# Altium schematic symbol library parts.SCHLIB: 20 symbols
Pins are listed as number, name and electrical type; pins without a type are passive.

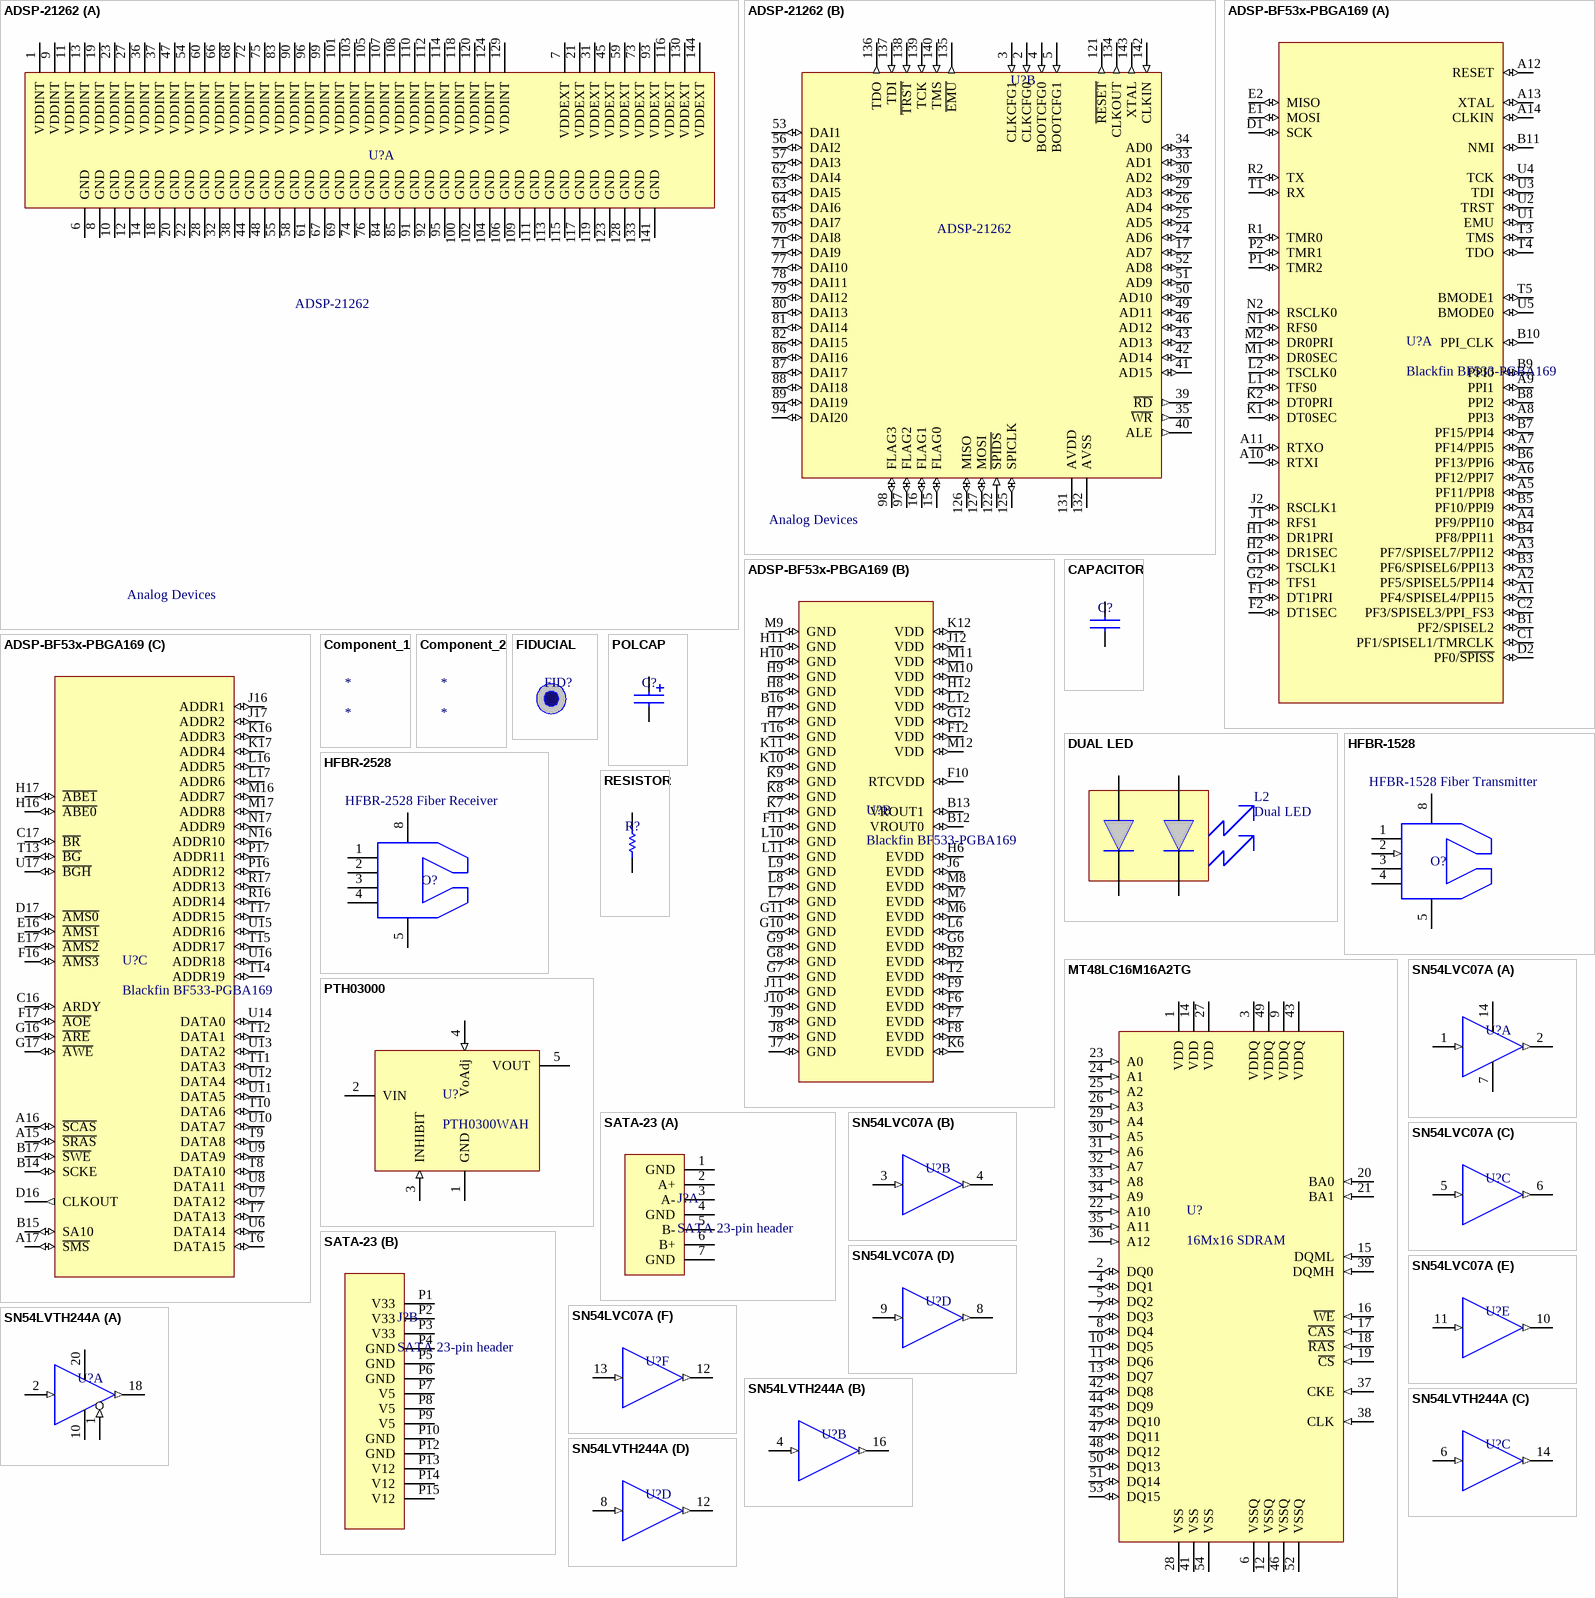
[diagram p0: symbols ADSP-21262 to SN54LVTH244A]

## ADSP-21262
designator U?  Vendor: Analog Devices
SHARC 200 MHz 32-bit floating-point SIMD DSP
footprint F-QFP20X20-G144/N
part A pins: 1 VDDINT (power), 6 GND (power), 7 VDDEXT (power), 8 GND (power), 9 VDDINT (power), 10 GND (power), 11 VDDINT (power), 12 GND (power), 13 VDDINT (power), 14 GND (power), 18 GND (power), 19 VDDINT (power), 20 GND (power), 21 VDDEXT (power), 22 GND (power), 23 VDDINT (power), 27 VDDINT (power), 28 GND (power), 31 VDDEXT (power), 32 GND (power), 36 VDDINT (power), 37 VDDINT (power), 38 GND (power), 44 GND (power), 45 VDDEXT (power), 47 VDDINT (power), 48 GND (power), 54 VDDINT (power), 55 GND (power), 58 GND (power), 59 VDDEXT (power), 60 VDDINT (power), 61 GND (power), 66 VDDINT (power), 67 GND (power), 68 VDDINT (power), 69 GND (power), 72 VDDINT (power), 73 VDDEXT (power), 74 GND (power), 75 VDDINT (power), 76 GND (power), 83 VDDINT (power), 84 GND (power), 85 GND (power), 90 VDDINT (power), 91 GND (power), 92 GND (power), 93 VDDEXT (power), 95 GND (power), 96 VDDINT (power), 99 VDDINT (power), 100 GND (power), 101 VDDINT (power), 102 GND (power), 103 VDDINT (power), 104 GND (power), 105 VDDINT (power), 106 GND (power), 107 VDDINT (power), 108 VDDINT (power), 109 GND (power), 110 VDDINT (power), 111 GND (power), 112 VDDINT (power), 113 GND (power), 114 VDDINT (power), 115 GND (power), 116 VDDEXT (power), 117 GND (power), 118 VDDINT (power), 119 GND (power), 120 VDDINT (power), 123 GND (power), 124 VDDINT (power), 128 GND (power), 129 VDDINT (power), 130 VDDEXT (power), 133 GND (power), 141 GND (power), 144 VDDEXT (power)
part B pins: 2 CLKCFG0 (in), 3 CLKCFG1 (in), 4 BOOTCFG0 (in), 5 BOOTCFG1 (in), 15 FLAG0 (io), 16 FLAG1 (io), 17 AD7 (io), 24 AD6 (io), 25 AD5 (io), 26 AD4 (io), 29 AD3 (io), 30 AD2 (io), 33 AD1 (io), 34 AD0 (io), 35 ~{WR} (out), 39 ~{RD} (out), 40 ALE (out), 41 AD15 (io), 42 AD14 (io), 43 AD13 (io), 46 AD12 (io), 49 AD11 (io), 50 AD10 (io), 51 AD9 (io), 52 AD8 (io), 53 DAI1 (io), 56 DAI2 (io), 57 DAI3 (io), 62 DAI4 (io), 63 DAI5 (io), 64 DAI6 (io), 65 DAI7 (io), 70 DAI8 (io), 71 DAI9 (io), 77 DAI10 (io), 78 DAI11 (io), 79 DAI12 (io), 80 DAI13 (io), 81 DAI14 (io), 82 DAI15 (io), 86 DAI16 (io), 87 DAI17 (io), 88 DAI18 (io), 89 DAI19 (io), 94 DAI20 (io), 97 FLAG2 (io), 98 FLAG3 (io), 121 ~{RESET} (out), 122 ~{SPIDS} (in), 125 SPICLK (io), 126 MISO (io), 127 MOSI (io), 131 AVDD (power), 132 AVSS (power), 134 CLKOUT (out), 135 ~{EMU} (out), 136 TDO (out), 137 TDI (in), 138 ~{TRST} (in), 139 TCK (in), 140 TMS (in), 142 CLKIN (in), 143 XTAL (out)

## ADSP-BF53x-PBGA169
designator U?, comment Blackfin BF533-PGBA169
Analog Devices Blackfin
footprint AD PBGA-169 (Footprint not found)
part A pins: A1 PF4/SPISEL4/PPI15 (io), A2 PF5/SPISEL5/PPI14 (io), A3 PF7/SPISEL7/PPI12 (io), A4 PF9/PPI10 (io), A5 PF11/PPI8 (io), A6 PF12/PPI7 (io), A7 PF14/PPI5 (io), A8 PPI3 (io), A9 PPI1 (io), A10 RTXI (io), A11 RTXO (io), A12 RESET (io), A13 XTAL (io), A14 CLKIN (io), B1 PF2/SPISEL2 (io), B3 PF6/SPISEL6/PPI13 (io), B4 PF8/PPI11 (io), B5 PF10/PPI9 (io), B6 PF13/PPI6 (io), B7 PF15/PPI4 (io), B8 PPI2 (io), B9 PPI0 (io), B10 PPI_CLK (io), B11 NMI (io), C1 PF1/SPISEL1/TMRCLK (io), C2 PF3/SPISEL3/PPI_FS3 (io), D1 SCK (io), D2 PF0/~{SPISS} (io), E1 MOSI (io), E2 MISO (io), F1 DT1PRI (io), F2 DT1SEC (io), G1 TSCLK1 (io), G2 TFS1 (io), H1 DR1PRI (io), H2 DR1SEC (io), J1 RFS1 (io), J2 RSCLK1 (io), K1 DT0SEC (io), K2 DT0PRI (io), L1 TFS0 (io), L2 TSCLK0 (io), M1 DR0SEC (io), M2 DR0PRI (io), N1 RFS0 (io), N2 RSCLK0 (io), P1 TMR2 (io), P2 TMR1 (io), R1 TMR0 (io), R2 TX (io), T1 RX (io), T3 TMS (io), T4 TDO (io), T5 BMODE1 (io), U1 EMU (io), U2 TRST (io), U3 TDI (io), U4 TCK (io), U5 BMODE0 (io)
part B pins: B2 EVDD (io), B12 VROUT0 (io), B13 VROUT1 (io), B16 GND (io), F6 EVDD (io), F7 EVDD (io), F8 EVDD (io), F9 EVDD (io), F10 RTCVDD (io), F11 GND (io), F12 VDD (io), G6 EVDD (io), G7 GND (io), G8 GND (io), G9 GND (io), G10 GND (io), G11 GND (io), G12 VDD (io), H6 EVDD (io), H7 GND (io), H8 GND (io), H9 GND (io), H10 GND (io), H11 GND (io), H12 VDD (io), J6 EVDD (io), J7 GND (io), J8 GND (io), J9 GND (io), J10 GND (io), J11 GND (io), J12 VDD (io), K6 EVDD (io), K7 GND (io), K8 GND (io), K9 GND (io), K10 GND (io), K11 GND (io), K12 VDD (io), L6 EVDD (io), L7 GND (io), L8 GND (io), L9 GND (io), L10 GND (io), L11 GND (io), L12 VDD (io), M6 EVDD (io), M7 EVDD (io), M8 EVDD (io), M9 GND (io), M10 VDD (io), M11 VDD (io), M12 VDD (io), T2 EVDD (io), T16 GND (io)
part C pins: A15 ~{SRAS} (io), A16 ~{SCAS} (io), A17 ~{SMS} (io), B14 SCKE (io), B15 SA10 (io), B17 ~{SWE} (io), C16 ARDY (io), C17 ~{BR} (io), D16 CLKOUT (out), D17 ~{AMS0} (io), E16 ~{AMS1} (io), E17 ~{AMS2} (io), F16 ~{AMS3} (io), F17 ~{AOE} (io), G16 ~{ARE} (io), G17 ~{AWE} (io), H16 ~{ABE0} (io), H17 ~{ABE1} (io), J16 ADDR1 (io), J17 ADDR2 (io), K16 ADDR3 (io), K17 ADDR4 (io), L16 ADDR5 (io), L17 ADDR6 (io), M16 ADDR7 (io), M17 ADDR8 (io), N16 ADDR10 (io), N17 ADDR9 (io), P16 ADDR12 (io), P17 ADDR11 (io), R16 ADDR14 (io), R17 ADDR13 (io), T6 DATA15 (io), T7 DATA13 (io), T8 DATA10 (io), T9 DATA8 (io), T10 DATA6 (io), T11 DATA3 (io), T12 DATA1 (io), T13 ~{BG} (io), T14 ADDR19 (io), T15 ADDR17 (io), T17 ADDR15 (io), U6 DATA14 (io), U7 DATA12 (io), U8 DATA11 (io), U9 DATA9 (io), U10 DATA7 (io), U11 DATA5 (io), U12 DATA4 (io), U13 DATA2 (io), U14 DATA0 (io), U15 ADDR16 (io), U16 ADDR18 (io), U17 ~{BGH} (io)

## CAPACITOR
designator C?
Standard Capacitor; Type: X7R
footprint 0603 (Standard-sized 0603 Passive)
pins: 1, 2

## Component_1
designator *

## Component_2
designator *

## DUAL LED
designator L2, comment Dual LED
footprint LUMEX DUAL RT-ANG LED (Lumex Dual Right-angle LED holder for part SSF-LXH2100XX)
pins: 1 A1, 2, 3 A2, 4 C2

## FIDUCIAL
designator FID?  (value not drawn)
Fiducial
footprint FIDUCIAL (Fiducial footprint as recommended by PCBpro)

## HFBR-1528
designator O?, comment HFBR-1528 Fiber Transmitter
Low-cost fiber transmitter; Vendor: Agilent
footprint HPVL
pins: 1 (power), 2 (in), 3 (power), 4 (power), 5 (power), 8 (power)

## HFBR-2528
designator O?, comment HFBR-2528 Fiber Receiver
Low-cost fiber receiver; Vendor: Agilent
footprint HPVL
pins: 1 (power), 2 (power), 3 (power), 4 (power), 5 (power), 8 (power)

## MT48LC16M16A2TG
designator U?, comment 16Mx16 SDRAM
Micron 16Mbitx16 SDRAM
footprint SO-G54/X.5 (Small Outline, Plastic; 54 Leads; Body Width 10.16 mm)
pins: 1 VDD (power), 2 DQ0 (io), 3 VDDQ (power), 4 DQ1 (io), 5 DQ2 (io), 6 VSSQ (power), 7 DQ3 (io), 8 DQ4 (io), 9 VDDQ (power), 10 DQ5 (io), 11 DQ6 (io), 12 VSSQ (power), 13 DQ7 (io), 14 VDD (power), 15 DQML (in), 16 ~{WE} (in), 17 ~{CAS} (in), 18 ~{RAS} (in), 19 ~{CS} (in), 20 BA0 (in), 21 BA1 (in), 22 A10 (in), 23 A0 (in), 24 A1 (in), 25 A2 (in), 26 A3 (in), 27 VDD (power), 28 VSS (power), 29 A4 (in), 30 A5 (in), 31 A6 (in), 32 A7 (in), 33 A8 (in), 34 A9 (in), 35 A11 (in), 36 A12 (in), 37 CKE (in), 38 CLK (in), 39 DQMH (in), 41 VSS (power), 42 DQ8 (io), 43 VDDQ (power), 44 DQ9 (io), 45 DQ10 (io), 46 VSSQ (power), 47 DQ11 (io), 48 DQ12 (io), 49 VDDQ (power), 50 DQ13 (io), 51 DQ14 (io), 52 VSSQ (power), 53 DQ15 (io), 54 VSS (power)

## POLCAP
designator C?
Standard Capacitor; Type: X7R
footprint 3216 (Standard-Sized 3216 Polarized Leadless Cap)
pins: 1, 2

## PTH03000
designator U?, comment PTH0300WAH
TI 6A 3.3V Input Power Modle
footprint TI EUS (Package for TI PTH03000W)
pins: 1 GND (power), 2 VIN (power), 3 INHIBIT (in), 4 VoAdj (in), 5 VOUT (power)

## RESISTOR
designator R?
Standard Passive Resistor
footprint 0603 (Standard-sized 0603 Passive)
pins: 1, 2

## SATA-23
designator J?, comment SATA 23-pin header
footprint MOLEX 87713-1001 (Molex Serial ATA Backplane Std. Height)
part A pins: 1 GND, 2 A+, 3 A-, 4 GND, 5 B-, 6 B+, 7 GND
part B pins: P1 V33, P2 V33, P3 V33, P4 GND, P5 GND, P6 GND, P7 V5, P8 V5, P9 V5, P10 GND, P12 GND, P13 V12, P14 V12, P15 V12

## SN54LVC07A
designator U?, comment SN74LVC07A  (value not drawn)
footprint SSO-G14/X.4 (SSOP; 14 Leads; Body Width 5.3 mm; Pitch 0.65 mm)
part A pins: 1 IN (in), 2 OUT (out), 7 GND (power), 14 VCC (power)
part B pins: 3 IN (in), 4 OUT (out)
part C pins: 5 IN (in), 6 OUT (out)
part D pins: 8 OUT (out), 9 IN (in)
part E pins: 10 OUT (out), 11 IN (in)
part F pins: 12 OUT (out), 13 IN (in)

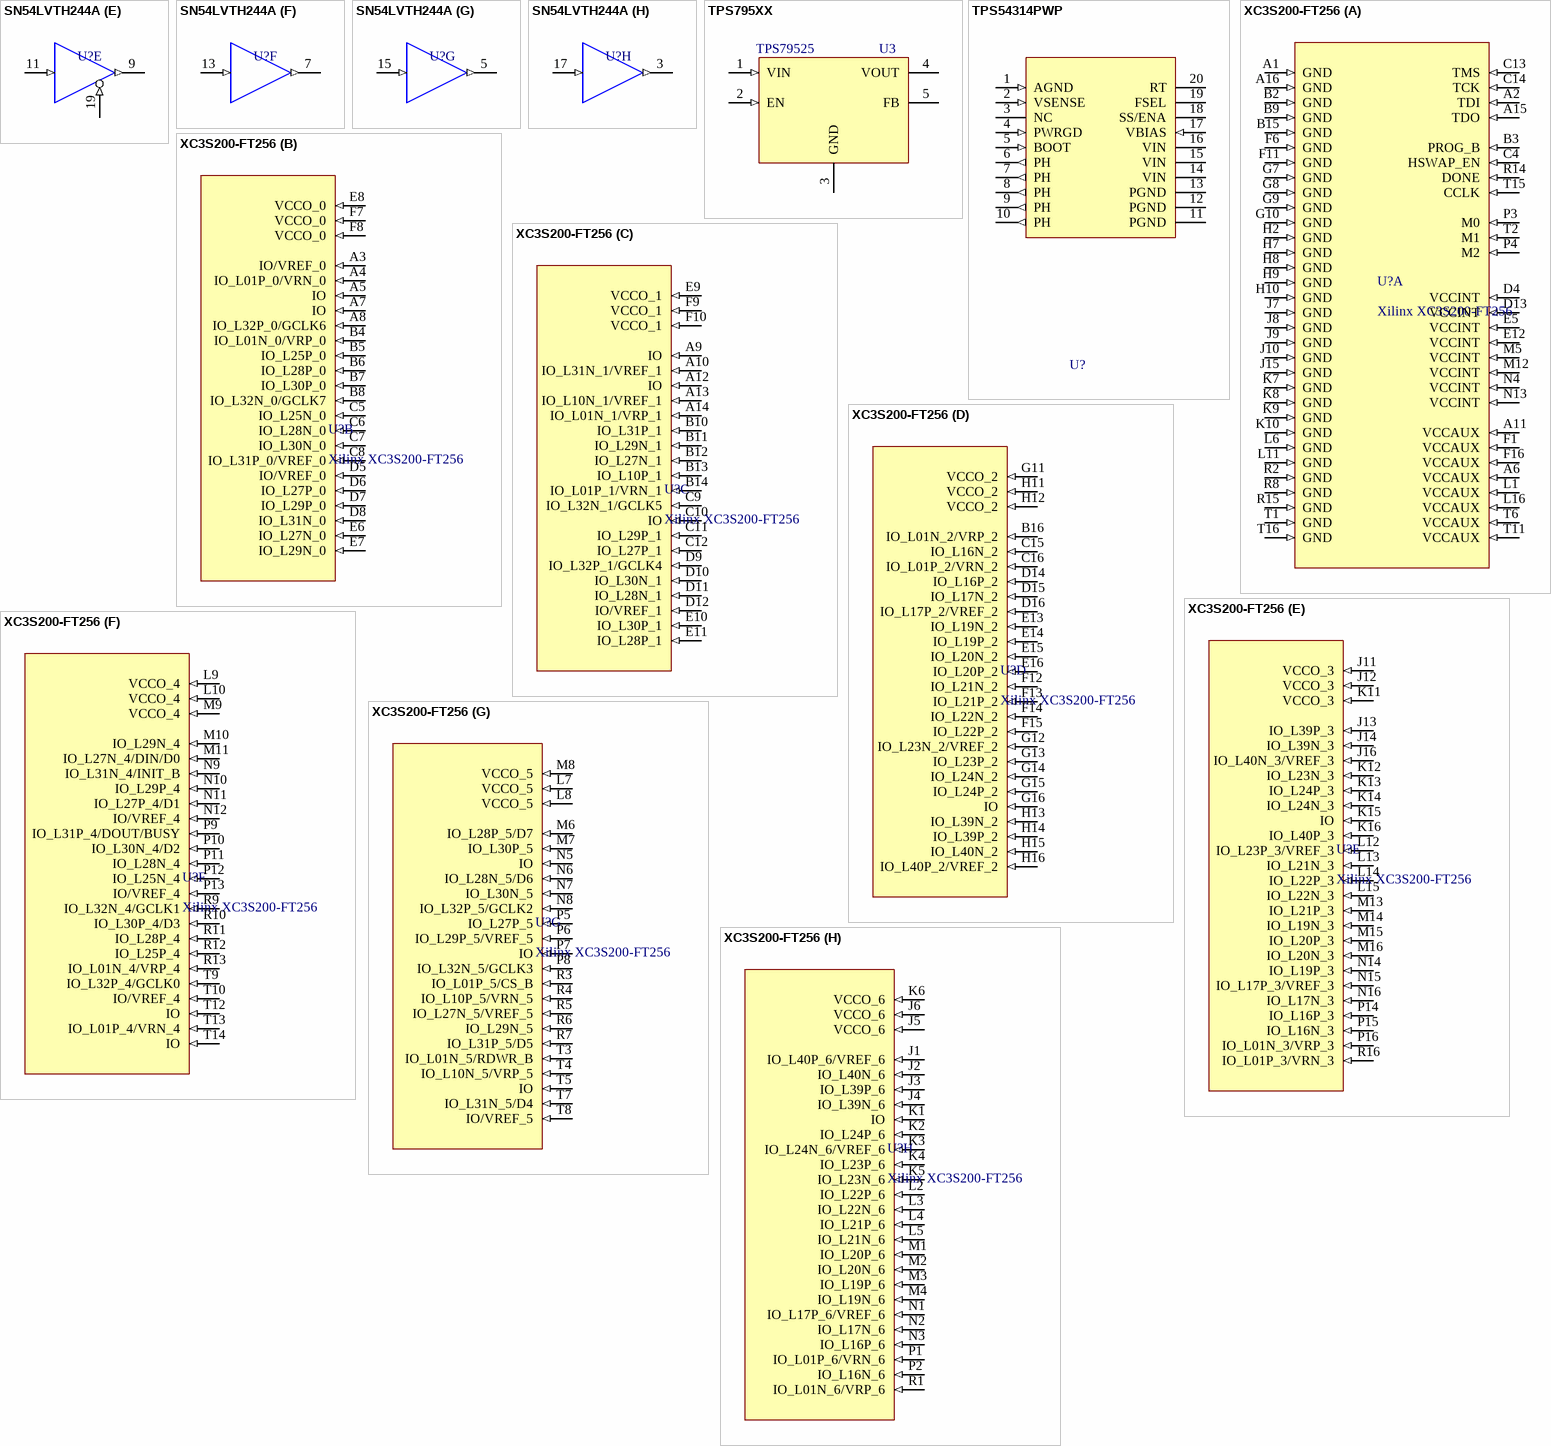
[diagram p1: symbols SN54LVTH244A to XC3S200-FT256]

## SN54LVTH244A
designator U?  (value not drawn)
footprint RGY (TI RGY SMT part)
part A pins: 1 ~{1OE} (in), 2 IN (in), 10 GND (power), 18 OUT (out), 20 VCC (power)
part B pins: 4 IN (in), 16 OUT (out)
part C pins: 6 IN (in), 14 OUT (out)
part D pins: 8 IN (in), 12 OUT (out)
part E pins: 9 OUT (out), 11 IN (in), 19 ~{2OE} (in)
part F pins: 7 OUT (out), 13 IN (in)
part G pins: 5 OUT (out), 15 IN (in)
part H pins: 3 OUT (out), 17 IN (in)

## TPS795XX
designator U3, comment TPS79525
TI Ultra-low-noise LDO
footprint SOT223-5/Simple (SOT-223 without large heatsink)
pins: 1 VIN (in), 2 EN (in), 3 GND (power), 4 VOUT (power), 5 FB

## TPS54314PWP
designator U?
3-6V input 3A out Buck converter
footprint PWP PowerPad -20
pins: 1 AGND (in), 2 VSENSE (in), 3 NC, 4 PWRGD (in), 5 BOOT (in), 6 PH (out), 7 PH (out), 8 PH (out), 9 PH (out), 10 PH (out), 11 PGND (power), 12 PGND (power), 13 PGND (power), 14 VIN (power), 15 VIN (power), 16 VIN (power), 17 VBIAS (in), 18 SS/ENA, 19 FSEL, 20 RT, P0 (power) hidden to GND, P1 (power) hidden to GND, P2 (power) hidden to GND, P3 (power) hidden to GND, P4 (power) hidden to GND, P5 (power) hidden to GND, P6 (power) hidden to GND, P7 (power) hidden to GND, P8 (power) hidden to GND, P9 (power) hidden to GND, P10 (power) hidden to GND

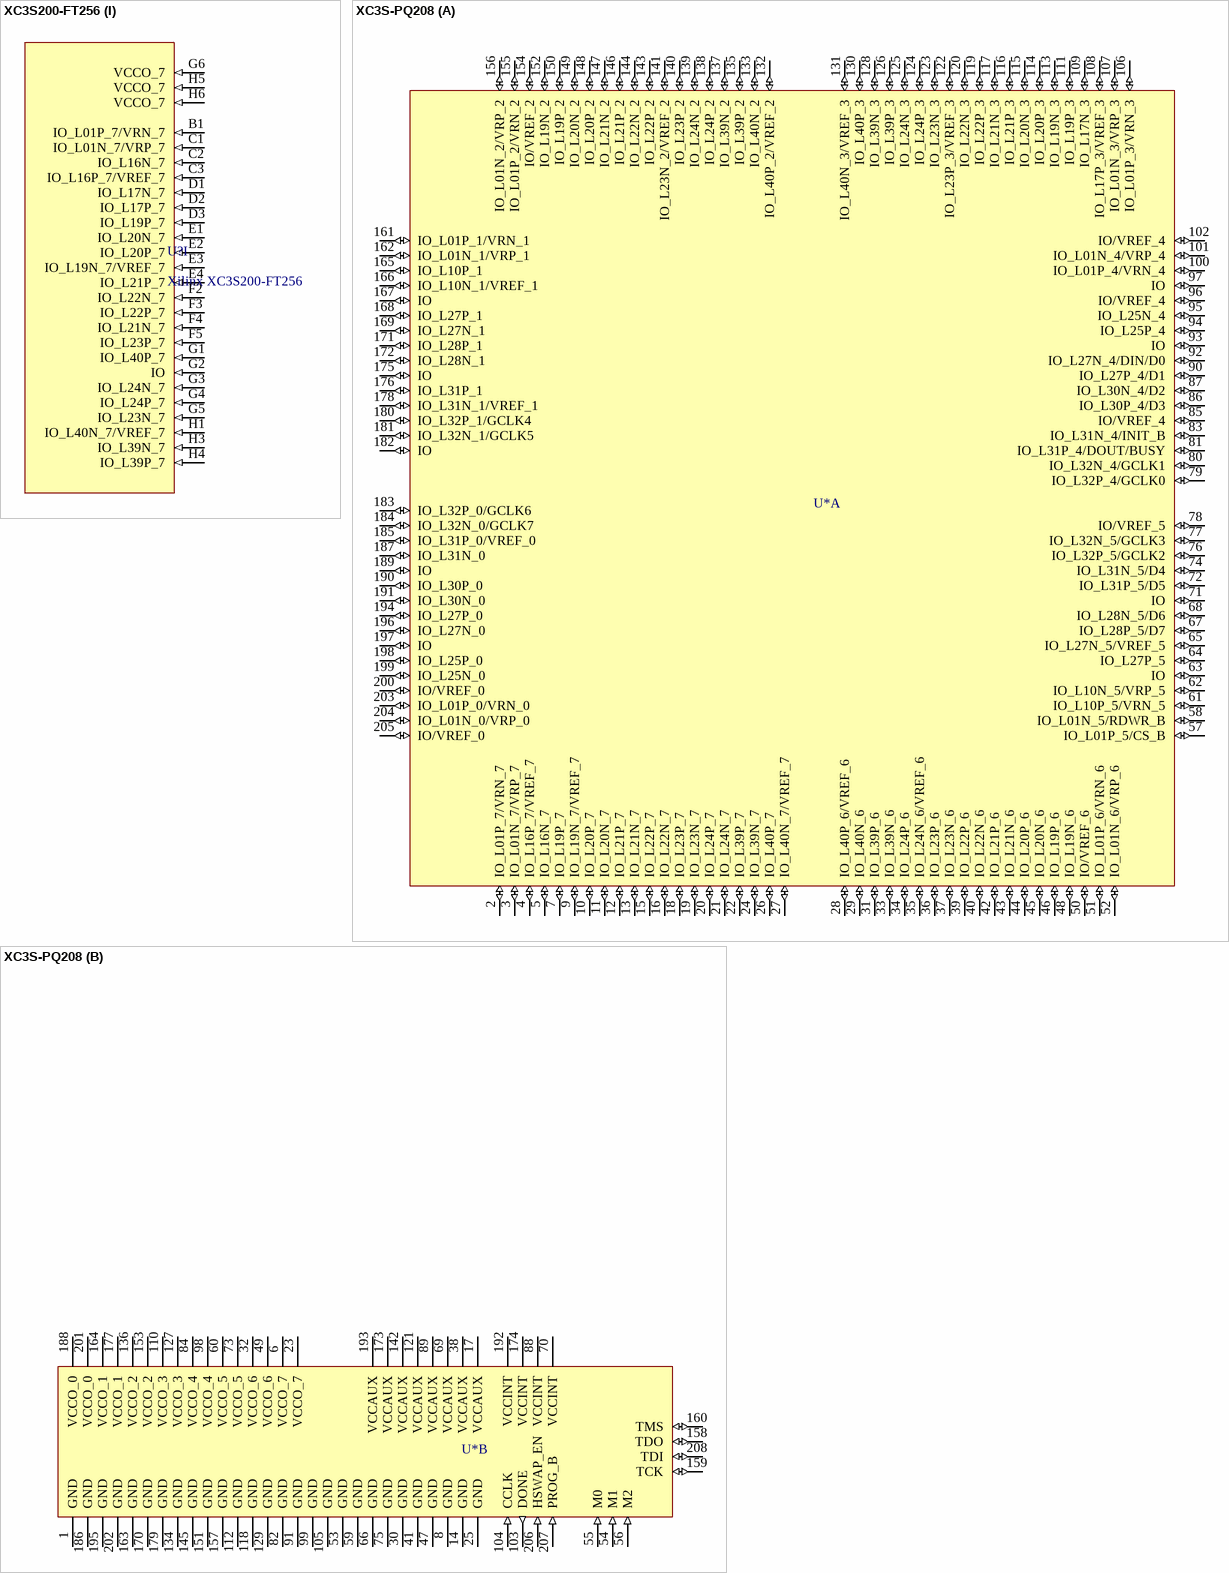
[diagram p2: symbols XC3S200-FT256 to XC3S-PQ208]

## XC3S200-FT256
designator U?, comment Xilinx XC3S200-FT256
Xilinx Spartan-3 FPGA
footprint Xilinx FT256 BGA (Xilinx BGA)
part A pins: A1 GND (in), A2 TDI (in), A6 VCCAUX (in), A11 VCCAUX (in), A15 TDO (in), A16 GND (in), B2 GND (in), B3 PROG_B (in), B9 GND (in), B15 GND (in), C4 HSWAP_EN (in), C13 TMS (in), C14 TCK (in), D4 VCCINT (in), D13 VCCINT (in), E5 VCCINT (in), E12 VCCINT (in), F1 VCCAUX (in), F6 GND (in), F11 GND (in), F16 VCCAUX (in), G7 GND (in), G8 GND (in), G9 GND (in), G10 GND (in), H2 GND (in), H7 GND (in), H8 GND (in), H9 GND (in), H10 GND (in), J7 GND (in), J8 GND (in), J9 GND (in), J10 GND (in), J15 GND (in), K7 GND (in), K8 GND (in), K9 GND (in), K10 GND (in), L1 VCCAUX (in), L6 GND (in), L11 GND (in), L16 VCCAUX (in), M5 VCCINT (in), M12 VCCINT (in), N4 VCCINT (in), N13 VCCINT (in), P3 M0 (in), P4 M2 (in), R2 GND (in), R8 GND (in), R14 DONE (in), R15 GND (in), T1 GND (in), T2 M1 (in), T6 VCCAUX (in), T11 VCCAUX (in), T15 CCLK (in), T16 GND (in)
part B pins: A3 IO/VREF_0 (in), A4 IO_L01P_0/VRN_0 (in), A5 IO (in), A7 IO (in), A8 IO_L32P_0/GCLK6 (in), B4 IO_L01N_0/VRP_0 (in), B5 IO_L25P_0 (in), B6 IO_L28P_0 (in), B7 IO_L30P_0 (in), B8 IO_L32N_0/GCLK7 (in), C5 IO_L25N_0 (in), C6 IO_L28N_0 (in), C7 IO_L30N_0 (in), C8 IO_L31P_0/VREF_0 (in), D5 IO/VREF_0 (in), D6 IO_L27P_0 (in), D7 IO_L29P_0 (in), D8 IO_L31N_0 (in), E6 IO_L27N_0 (in), E7 IO_L29N_0 (in), E8 VCCO_0 (in), F7 VCCO_0 (in), F8 VCCO_0 (in)
part C pins: A9 IO (in), A10 IO_L31N_1/VREF_1 (in), A12 IO (in), A13 IO_L10N_1/VREF_1 (in), A14 IO_L01N_1/VRP_1 (in), B10 IO_L31P_1 (in), B11 IO_L29N_1 (in), B12 IO_L27N_1 (in), B13 IO_L10P_1 (in), B14 IO_L01P_1/VRN_1 (in), C9 IO_L32N_1/GCLK5 (in), C10 IO (in), C11 IO_L29P_1 (in), C12 IO_L27P_1 (in), D9 IO_L32P_1/GCLK4 (in), D10 IO_L30N_1 (in), D11 IO_L28N_1 (in), D12 IO/VREF_1 (in), E9 VCCO_1 (in), E10 IO_L30P_1 (in), E11 IO_L28P_1 (in), F9 VCCO_1 (in), F10 VCCO_1 (in)
part D pins: B16 IO_L01N_2/VRP_2 (in), C15 IO_L16N_2 (in), C16 IO_L01P_2/VRN_2 (in), D14 IO_L16P_2 (in), D15 IO_L17N_2 (in), D16 IO_L17P_2/VREF_2 (in), E13 IO_L19N_2 (in), E14 IO_L19P_2 (in), E15 IO_L20N_2 (in), E16 IO_L20P_2 (in), F12 IO_L21N_2 (in), F13 IO_L21P_2 (in), F14 IO_L22N_2 (in), F15 IO_L22P_2 (in), G11 VCCO_2 (in), G12 IO_L23N_2/VREF_2 (in), G13 IO_L23P_2 (in), G14 IO_L24N_2 (in), G15 IO_L24P_2 (in), G16 IO (in), H11 VCCO_2 (in), H12 VCCO_2 (in), H13 IO_L39N_2 (in), H14 IO_L39P_2 (in), H15 IO_L40N_2 (in), H16 IO_L40P_2/VREF_2 (in)
part E pins: J11 VCCO_3 (in), J12 VCCO_3 (in), J13 IO_L39P_3 (in), J14 IO_L39N_3 (in), J16 IO_L40N_3/VREF_3 (in), K11 VCCO_3 (in), K12 IO_L23N_3 (in), K13 IO_L24P_3 (in), K14 IO_L24N_3 (in), K15 IO (in), K16 IO_L40P_3 (in), L12 IO_L23P_3/VREF_3 (in), L13 IO_L21N_3 (in), L14 IO_L22P_3 (in), L15 IO_L22N_3 (in), M13 IO_L21P_3 (in), M14 IO_L19N_3 (in), M15 IO_L20P_3 (in), M16 IO_L20N_3 (in), N14 IO_L19P_3 (in), N15 IO_L17P_3/VREF_3 (in), N16 IO_L17N_3 (in), P14 IO_L16P_3 (in), P15 IO_L16N_3 (in), P16 IO_L01N_3/VRP_3 (in), R16 IO_L01P_3/VRN_3 (in)
part F pins: L9 VCCO_4 (in), L10 VCCO_4 (in), M9 VCCO_4 (in), M10 IO_L29N_4 (in), M11 IO_L27N_4/DIN/D0 (in), N9 IO_L31N_4/INIT_B (in), N10 IO_L29P_4 (in), N11 IO_L27P_4/D1 (in), N12 IO/VREF_4 (in), P9 IO_L31P_4/DOUT/BUSY (in), P10 IO_L30N_4/D2 (in), P11 IO_L28N_4 (in), P12 IO_L25N_4 (in), P13 IO/VREF_4 (in), R9 IO_L32N_4/GCLK1 (in), R10 IO_L30P_4/D3 (in), R11 IO_L28P_4 (in), R12 IO_L25P_4 (in), R13 IO_L01N_4/VRP_4 (in), T9 IO_L32P_4/GCLK0 (in), T10 IO/VREF_4 (in), T12 IO (in), T13 IO_L01P_4/VRN_4 (in), T14 IO (in)
part G pins: L7 VCCO_5 (in), L8 VCCO_5 (in), M6 IO_L28P_5/D7 (in), M7 IO_L30P_5 (in), M8 VCCO_5 (in), N5 IO (in), N6 IO_L28N_5/D6 (in), N7 IO_L30N_5 (in), N8 IO_L32P_5/GCLK2 (in), P5 IO_L27P_5 (in), P6 IO_L29P_5/VREF_5 (in), P7 IO (in), P8 IO_L32N_5/GCLK3 (in), R3 IO_L01P_5/CS_B (in), R4 IO_L10P_5/VRN_5 (in), R5 IO_L27N_5/VREF_5 (in), R6 IO_L29N_5 (in), R7 IO_L31P_5/D5 (in), T3 IO_L01N_5/RDWR_B (in), T4 IO_L10N_5/VRP_5 (in), T5 IO (in), T7 IO_L31N_5/D4 (in), T8 IO/VREF_5 (in)
part H pins: J1 IO_L40P_6/VREF_6 (in), J2 IO_L40N_6 (in), J3 IO_L39P_6 (in), J4 IO_L39N_6 (in), J5 VCCO_6 (in), J6 VCCO_6 (in), K1 IO (in), K2 IO_L24P_6 (in), K3 IO_L24N_6/VREF_6 (in), K4 IO_L23P_6 (in), K5 IO_L23N_6 (in), K6 VCCO_6 (in), L2 IO_L22P_6 (in), L3 IO_L22N_6 (in), L4 IO_L21P_6 (in), L5 IO_L21N_6 (in), M1 IO_L20P_6 (in), M2 IO_L20N_6 (in), M3 IO_L19P_6 (in), M4 IO_L19N_6 (in), N1 IO_L17P_6/VREF_6 (in), N2 IO_L17N_6 (in), N3 IO_L16P_6 (in), P1 IO_L01P_6/VRN_6 (in), P2 IO_L16N_6 (in), R1 IO_L01N_6/VRP_6 (in)
part I pins: B1 IO_L01P_7/VRN_7 (in), C1 IO_L01N_7/VRP_7 (in), C2 IO_L16N_7 (in), C3 IO_L16P_7/VREF_7 (in), D1 IO_L17N_7 (in), D2 IO_L17P_7 (in), D3 IO_L19P_7 (in), E1 IO_L20N_7 (in), E2 IO_L20P_7 (in), E3 IO_L19N_7/VREF_7 (in), E4 IO_L21P_7 (in), F2 IO_L22N_7 (in), F3 IO_L22P_7 (in), F4 IO_L21N_7 (in), F5 IO_L23P_7 (in), G1 IO_L40P_7 (in), G2 IO (in), G3 IO_L24N_7 (in), G4 IO_L24P_7 (in), G5 IO_L23N_7 (in), G6 VCCO_7 (in), H1 IO_L40N_7/VREF_7 (in), H3 IO_L39N_7 (in), H4 IO_L39P_7 (in), H5 VCCO_7 (in), H6 VCCO_7 (in)

## XC3S-PQ208
designator U*
Xilinx Spartan-3 PQ208
footprint F-QFP28X28-G208/Z32N
part A pins: 2 IO_L01P_7/VRN_7 (io), 3 IO_L01N_7/VRP_7 (io), 4 IO_L16P_7/VREF_7 (io), 5 IO_L16N_7 (io), 7 IO_L19P_7 (io), 9 IO_L19N_7/VREF_7 (io), 10 IO_L20P_7 (io), 11 IO_L20N_7 (io), 12 IO_L21P_7 (io), 13 IO_L21N_7 (io), 15 IO_L22P_7 (io), 16 IO_L22N_7 (io), 18 IO_L23P_7 (io), 19 IO_L23N_7 (io), 20 IO_L24P_7 (io), 21 IO_L24N_7 (io), 22 IO_L39P_7 (io), 24 IO_L39N_7 (io), 26 IO_L40P_7 (io), 27 IO_L40N_7/VREF_7 (io), 28 IO_L40P_6/VREF_6 (io), 29 IO_L40N_6 (io), 31 IO_L39P_6 (io), 33 IO_L39N_6 (io), 34 IO_L24P_6 (io), 35 IO_L24N_6/VREF_6 (io), 36 IO_L23P_6 (io), 37 IO_L23N_6 (io), 39 IO_L22P_6 (io), 40 IO_L22N_6 (io), 42 IO_L21P_6 (io), 43 IO_L21N_6 (io), 44 IO_L20P_6 (io), 45 IO_L20N_6 (io), 46 IO_L19P_6 (io), 48 IO_L19N_6 (io), 50 IO/VREF_6 (io), 51 IO_L01P_6/VRN_6 (io), 52 IO_L01N_6/VRP_6 (io), 57 IO_L01P_5/CS_B (io), 58 IO_L01N_5/RDWR_B (io), 61 IO_L10P_5/VRN_5 (io), 62 IO_L10N_5/VRP_5 (io), 63 IO (io), 64 IO_L27P_5 (io), 65 IO_L27N_5/VREF_5 (io), 67 IO_L28P_5/D7 (io), 68 IO_L28N_5/D6 (io), 71 IO (io), 72 IO_L31P_5/D5 (io), 74 IO_L31N_5/D4 (io), 76 IO_L32P_5/GCLK2 (io), 77 IO_L32N_5/GCLK3 (io), 78 IO/VREF_5 (io), 79 IO_L32P_4/GCLK0 (io), 80 IO_L32N_4/GCLK1 (io), 81 IO_L31P_4/DOUT/BUSY (io), 83 IO_L31N_4/INIT_B (io), 85 IO/VREF_4 (io), 86 IO_L30P_4/D3 (io), 87 IO_L30N_4/D2 (io), 90 IO_L27P_4/D1 (io), 92 IO_L27N_4/DIN/D0 (io), 93 IO (io), 94 IO_L25P_4 (io), 95 IO_L25N_4 (io), 96 IO/VREF_4 (io), 97 IO (io), 100 IO_L01P_4/VRN_4 (io), 101 IO_L01N_4/VRP_4 (io), 102 IO/VREF_4 (io), 106 IO_L01P_3/VRN_3 (io), 107 IO_L01N_3/VRP_3 (io), 108 IO_L17P_3/VREF_3 (io), 109 IO_L17N_3 (io), 111 IO_L19P_3 (io), 113 IO_L19N_3 (io), 114 IO_L20P_3 (io), 115 IO_L20N_3 (io), 116 IO_L21P_3 (io), 117 IO_L21N_3 (io), 119 IO_L22P_3 (io), 120 IO_L22N_3 (io), 122 IO_L23P_3/VREF_3 (io), 123 IO_L23N_3 (io), 124 IO_L24P_3 (io), 125 IO_L24N_3 (io), 126 IO_L39P_3 (io), 128 IO_L39N_3 (io), 130 IO_L40P_3 (io), 131 IO_L40N_3/VREF_3 (io), 132 IO_L40P_2/VREF_2 (io), 133 IO_L40N_2 (io), 135 IO_L39P_2 (io), 137 IO_L39N_2 (io), 138 IO_L24P_2 (io), 139 IO_L24N_2 (io), 140 IO_L23P_2 (io), 141 IO_L23N_2/VREF_2 (io), 143 IO_L22P_2 (io), 144 IO_L22N_2 (io), 146 IO_L21P_2 (io), 147 IO_L21N_2 (io), 148 IO_L20P_2 (io), 149 IO_L20N_2 (io), 150 IO_L19P_2 (io), 152 IO_L19N_2 (io), 154 IO/VREF_2 (io), 155 IO_L01P_2/VRN_2 (io), 156 IO_L01N_2/VRP_2 (io), 161 IO_L01P_1/VRN_1 (io), 162 IO_L01N_1/VRP_1 (io), 165 IO_L10P_1 (io), 166 IO_L10N_1/VREF_1 (io), 167 IO (io), 168 IO_L27P_1 (io), 169 IO_L27N_1 (io), 171 IO_L28P_1 (io), 172 IO_L28N_1 (io), 175 IO (io), 176 IO_L31P_1 (io), 178 IO_L31N_1/VREF_1 (io), 180 IO_L32P_1/GCLK4 (io), 181 IO_L32N_1/GCLK5 (io), 182 IO (io), 183 IO_L32P_0/GCLK6 (io), 184 IO_L32N_0/GCLK7 (io), 185 IO_L31P_0/VREF_0 (io), 187 IO_L31N_0 (io), 189 IO (io), 190 IO_L30P_0 (io), 191 IO_L30N_0 (io), 194 IO_L27P_0 (io), 196 IO_L27N_0 (io), 197 IO (io), 198 IO_L25P_0 (io), 199 IO_L25N_0 (io), 200 IO/VREF_0 (io), 203 IO_L01P_0/VRN_0 (io), 204 IO_L01N_0/VRP_0 (io), 205 IO/VREF_0 (io)
part B pins: 1 GND (power), 6 VCCO_7 (power), 8 GND (power), 14 GND (power), 17 VCCAUX (power), 23 VCCO_7 (power), 25 GND (power), 30 GND (power), 32 VCCO_6 (power), 38 VCCAUX (power), 41 GND (power), 47 GND (power), 49 VCCO_6 (power), 53 GND (power), 54 M1 (in), 55 M0 (in), 56 M2 (in), 59 GND (power), 60 VCCO_5 (power), 66 GND (power), 69 VCCAUX (power), 70 VCCINT (power), 73 VCCO_5 (power), 75 GND (power), 82 GND (power), 84 VCCO_4 (power), 88 VCCINT (power), 89 VCCAUX (power), 91 GND (power), 98 VCCO_4 (power), 99 GND (power), 103 DONE (out), 104 CCLK (in), 105 GND (power), 110 VCCO_3 (power), 112 GND (power), 118 GND (power), 121 VCCAUX (power), 127 VCCO_3 (power), 129 GND (power), 134 GND (power), 136 VCCO_2 (power), 142 VCCAUX (power), 145 GND (power), 151 GND (power), 153 VCCO_2 (power), 157 GND (power), 158 TDO (io), 159 TCK (io), 160 TMS (io), 163 GND (power), 164 VCCO_1 (power), 170 GND (power), 173 VCCAUX (power), 174 VCCINT (power), 177 VCCO_1 (power), 179 GND (power), 186 GND (power), 188 VCCO_0 (power), 192 VCCINT (power), 193 VCCAUX (power), 195 GND (power), 201 VCCO_0 (power), 202 GND (power), 206 HSWAP_EN (in), 207 PROG_B (in), 208 TDI (io)